# EAGLE library part 11_PIN_CON (library 11_pin_connecterp)
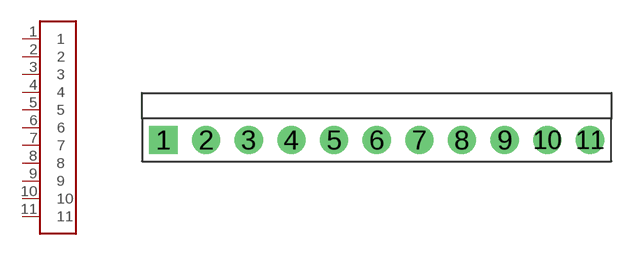
[diagram p0: symbol with the pads of 11_PIN; footprint 11_PIN]

Designator prefix -

## 11_PIN_CON  [11_PIN]
1  1
2  2
3  3
4  4
5  5
6  6
7  7
8  8
9  9
10  10
11  11

## Footprint 11_PIN (pad centres in mm)
drill 0.889 pad 1.676 square: 1 -12.7,0
drill 0.889 pad 1.676: 2 -10.16,0; 3 -7.62,0; 4 -5.08,0; 5 -2.54,0; 6 0,0; 7 2.54,0; 8 5.08,0; 9 7.62,0; 10 10.16,0; 11 12.7,0